# EAGLE library part TEA5767 (library Module)
TEA5767 FM Radio Module.
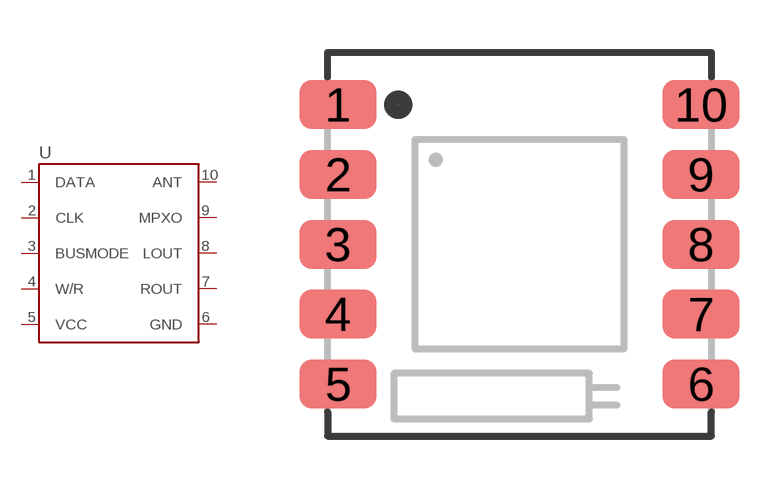
[diagram p0: symbol with the pads of TEA5767; footprint TEA5767]

Designator prefix U

## TEA5767 (DESC: FM Radio Module; MPN: TEA5767)  [TEA5767]
1  DATA
2  CLK
3  BUSMODE
4  W/R
5  VCC
6  GND
7  ROUT
8  LOUT
9  MPXO
10  ANT

## Footprint TEA5767 (pad centres in mm)
TEA5767 Module
smd 2.2 x 1.4: 1 -5.2,4; 2 -5.2,2; 3 -5.2,0; 4 -5.2,-2; 5 -5.2,-4; 6 5.2,-4; 7 5.2,-2; 8 5.2,0; 9 5.2,2; 10 5.2,4